# Altium footprint library IC Footprints.PcbLib: 34 footprints (part 1 of 3)
Each footprint in its own frame and in the unit in brackets; x right, y up, seen from the top. Pads: shape width x height; smd on the part's side, far side on the other; paste and mask are expansions set on the pad; w line width, h text height; cw(c..) or ccw(c..) is an arc to the next point about the centre after c.
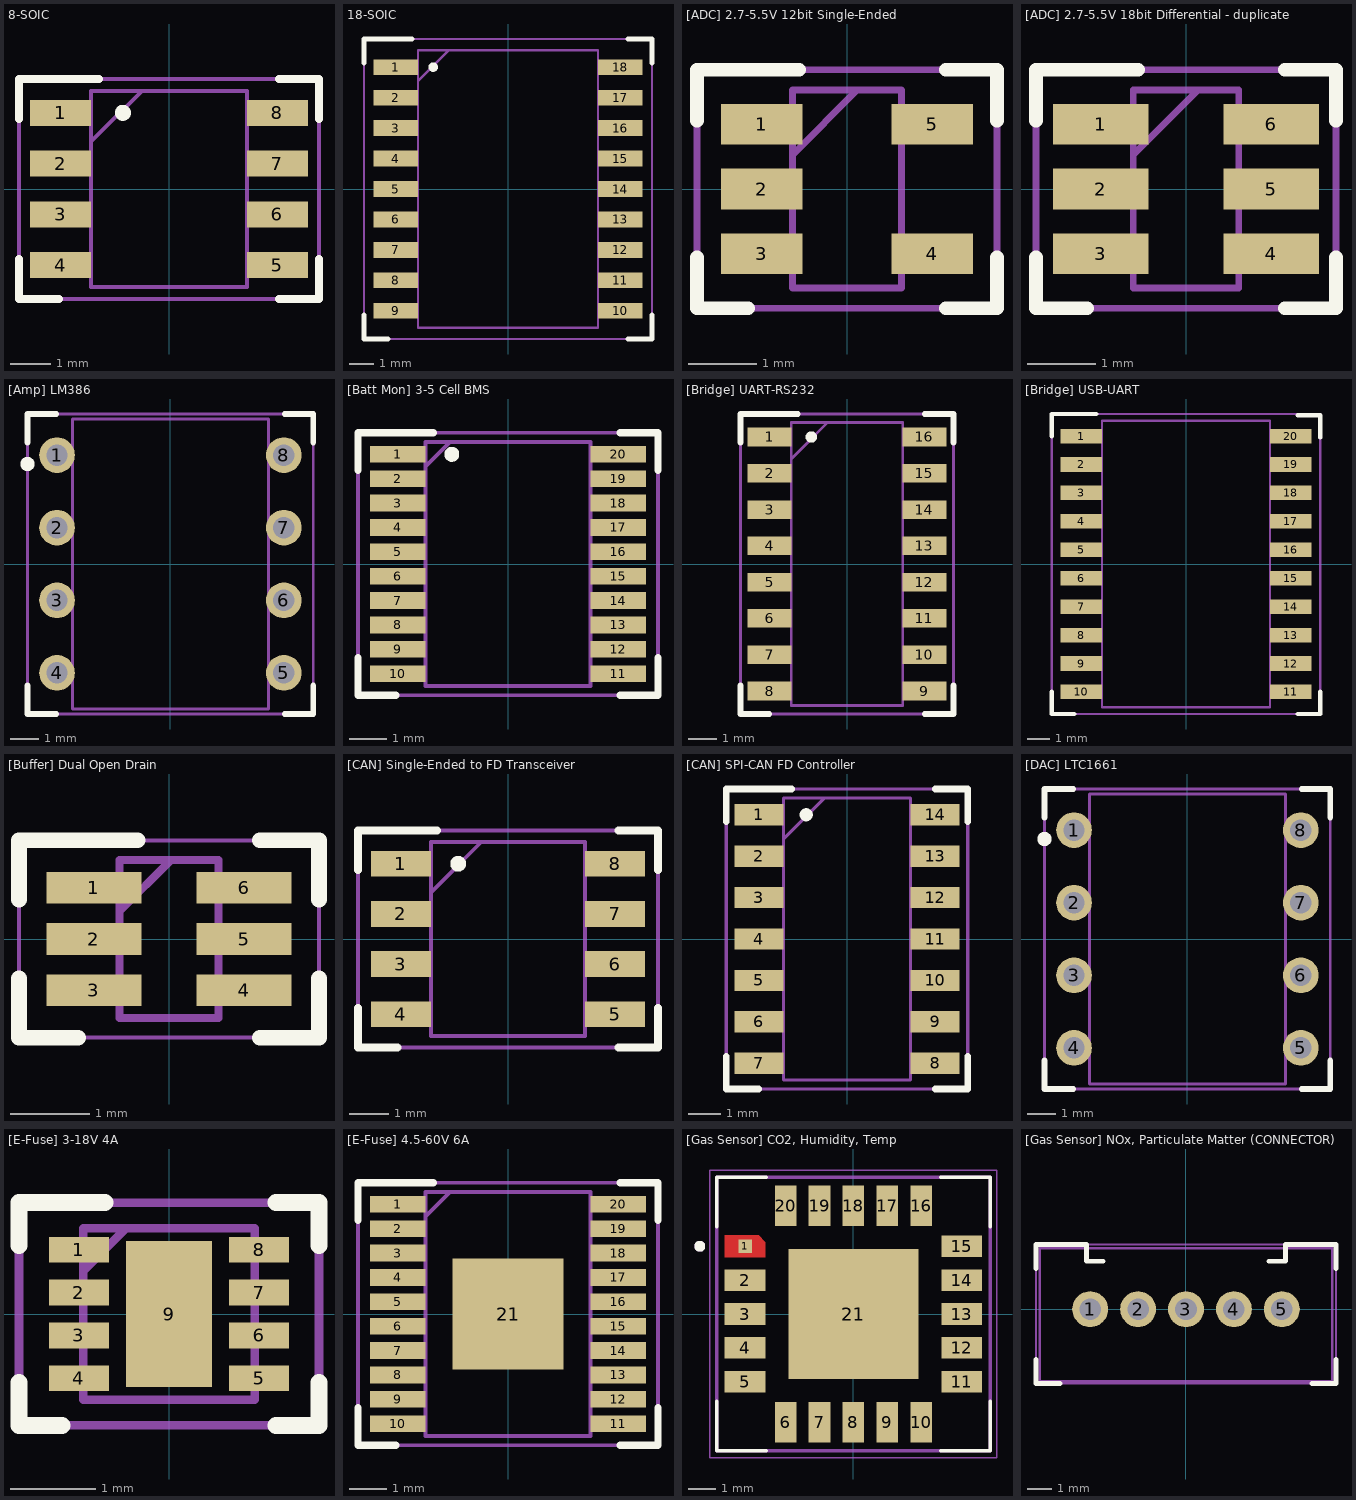
[diagram p0: the footprints below, top view; thin cyan lines are the x and y axes]

## 8-SOIC [mm]
pads (8):
  rect 1.528x0.65 smd: 1(-2.711,1.905) 2(-2.711,0.635) 3(-2.711,-0.635) 4(-2.711,-1.905) 5(2.711,-1.905) 6(2.711,-0.635) 7(2.711,0.635) 8(2.711,1.905)
Top Overlay:
  circle w0.2: c-1.151,1.905 r0.1
  lines w0.2: -3.75,-1.75 -3.75,-2.75 -2.75,-2.75 ; -3.75,1.75 -3.75,2.75 -1.75,2.75 ; 2.75,-2.75 3.75,-2.75 3.75,-1.75 ; 2.75,2.75 3.75,2.75 3.75,1.75
Physical Outline:
  lines w0.1: -1.948,1.182 -0.678,2.452 ; -1.948,-2.452 1.948,-2.452 1.948,2.452 -1.948,2.452 -1.948,-2.452
Part Outline:
  lines w0.1: -3.75,-2.75 3.75,-2.75 3.75,2.75 -3.75,2.75 -3.75,-2.75
3D body "TMCS1100A3QDR.stp": height 1.63, standoff 0, extent -3.011,-2.451 3.011,2.451

## 18-SOIC [mm]
pads (18):
  rect 1.85x0.65 smd: 1(-4.675,5.08) 2(-4.675,3.81) 3(-4.675,2.54) 4(-4.675,1.27) 5(-4.675,0) 6(-4.675,-1.27) 7(-4.675,-2.54) 8(-4.675,-3.81) 9(-4.675,-5.08) 10(4.675,-5.08) 11(4.675,-3.81) 12(4.675,-2.54) 13(4.675,-1.27) 14(4.675,0) 15(4.675,1.27) 16(4.675,2.54) 17(4.675,3.81) 18(4.675,5.08)
Top Overlay:
  circle w0.2: c-3.115,5.08 r0.1
  lines w0.2: -6,-5.25 -6,-6.25 -5,-6.25 ; -6,5.25 -6,6.25 -4,6.25 ; 5,-6.25 6,-6.25 6,-5.25 ; 5,6.25 6,6.25 6,5.25
Physical Outline:
  lines w0.1: -3.75,4.505 -2.48,5.775 ; -3.75,-5.775 3.75,-5.775 3.75,5.775 -3.75,5.775 -3.75,-5.775
Part Outline:
  lines w0.1: -6,-6.25 6,-6.25 6,6.25 -6,6.25 -6,-6.25
3D body "MCP2515T-I_SO.stp": height 2.65, standoff 0, extent -5.15,-5.775 5.15,5.775

## [ADC] 2.7-5.5V 12bit Single-Ended [mm] "MCP3221A0T-E/OT"
pads (5):
  rect 1.2x0.6 smd: 1(-1.25,0.95) 2(-1.25,0) 3(-1.25,-0.95) 4(1.25,-0.95) 5(1.25,0.95)
Top Overlay:
  lines w0.2: -2.2,-1 -2.2,-1.75 -1.45,-1.75 ; -2.2,1 -2.2,1.75 -0.7,1.75 ; 1.45,-1.75 2.2,-1.75 2.2,-1 ; 1.45,1.75 2.2,1.75 2.2,1
Physical Outline:
  lines w0.1: -0.8,0.5 0.15,1.45 ; -0.8,-1.45 0.8,-1.45 0.8,1.45 -0.8,1.45 -0.8,-1.45
Part Outline:
  lines w0.05: -2.1,-1.775 2.1,-1.775 ; -2.1,1.775 2.1,1.775
  lines w0.1: -2.2,-1.75 -2.2,1.75 2.2,1.75 2.2,-1.75 -2.2,-1.75
3D body "TL431IDBVR.stp": height 1.2, standoff 0, extent -1.4,-1.45 1.4,1.45

## [ADC] 2.7-5.5V 18bit Differential - duplicate [mm] "MCP3421A3T-E/CH"
pads (6):
  rect 1.4x0.6 smd: 1(-1.25,0.95) 2(-1.25,0) 3(-1.25,-0.95) 4(1.25,-0.95) 5(1.25,0) 6(1.25,0.95)
Top Overlay:
  lines w0.2: -2.2,-1 -2.2,-1.75 -1.45,-1.75 ; -2.2,1 -2.2,1.75 -0.7,1.75 ; 1.45,-1.75 2.2,-1.75 2.2,-1 ; 1.45,1.75 2.2,1.75 2.2,1
Physical Outline:
  lines w0.1: -0.775,0.5 0.175,1.45 ; -0.775,-1.45 0.775,-1.45 0.775,1.45 -0.775,1.45 -0.775,-1.45
Part Outline:
  lines w0.1: -2.2,-1.75 2.2,-1.75 2.2,1.75 -2.2,1.75 -2.2,-1.75
3D body "93LC66AT-I_OT.stp": height 1.45, standoff 0, extent -1.35,-1.45 1.35,1.45

## [Amp] LM386 [mm] "LM386N-1/NOPB"
pads (8):
  round 1.25 hole 0.75: 1(-3.969,3.81) 2(-3.969,1.27) 3(-3.969,-1.27) 4(-3.969,-3.81) 5(3.969,-3.81) 6(3.969,-1.27) 7(3.969,1.27) 8(3.969,3.81)
Top Overlay:
  circle w0.3: c-5,3.5 r0.1
  lines w0.2: -5,-4.25 -5,-5.25 -4,-5.25 ; -5,4.25 -5,5.25 -4,5.25 ; 4,-5.25 5,-5.25 5,-4.25 ; 4,5.25 5,5.25 5,4.25
Physical Outline:
  lines w0.1: -3.429,-5.08 -3.429,5.08 3.429,5.08 3.429,-5.08 -3.429,-5.08
Part Outline:
  lines w0.1: -5,-5.25 5,-5.25 5,5.25 -5,5.25 -5,-5.25
3D body "LTC1661CN8#PBF.stp": height 3.94, standoff -3.5, extent -4.102,-5.08 4.102,5.08

## [Batt Mon] 3-5 Cell BMS [mm]
pads (20):
  rect 1.475x0.45 smd: 1(-2.938,2.925) 2(-2.938,2.275) 3(-2.938,1.625) 4(-2.938,0.975) 5(-2.938,0.325) 6(-2.938,-0.325) 7(-2.938,-0.975) 8(-2.938,-1.625) 9(-2.938,-2.275) 10(-2.938,-2.925) 11(2.938,-2.925) 12(2.938,-2.275) 13(2.938,-1.625) 14(2.938,-0.975) 15(2.938,-0.325) 16(2.938,0.325) 17(2.938,0.975) 18(2.938,1.625) 19(2.938,2.275) 20(2.938,2.925)
Top Overlay:
  circle w0.2: c-1.5,2.925 r0.1
  lines w0.2: -4,-2.5 -4,-3.5 -3,-3.5 ; -4,2.5 -4,3.5 -2,3.5 ; 3,-3.5 4,-3.5 4,-2.5 ; 3,3.5 4,3.5 4,2.5
Physical Outline:
  lines w0.1: -2.2,2.6 -1.55,3.25 ; -2.2,-3.25 2.2,-3.25 2.2,3.25 -2.2,3.25 -2.2,-3.25
Part Outline:
  lines w0.1: -4,-3.5 4,-3.5 4,3.5 -4,3.5 -4,-3.5
3D body "TXS0108EQPWRQ1.stp": height 1.13, standoff 0, extent -3.2,-3.25 3.2,3.25

## [Bridge] UART-RS232 [mm]
pads (16):
  rect 1.525x0.65 smd: 1(-2.712,4.445) 2(-2.712,3.175) 3(-2.712,1.905) 4(-2.712,0.635) 5(-2.712,-0.635) 6(-2.712,-1.905) 7(-2.712,-3.175) 8(-2.712,-4.445) 9(2.712,-4.445) 10(2.712,-3.175) 11(2.712,-1.905) 12(2.712,-0.635) 13(2.712,0.635) 14(2.712,1.905) 15(2.712,3.175) 16(2.712,4.445)
Top Overlay:
  circle w0.2: c-1.25,4.445 r0.1
  lines w0.2: -3.725,-4.25 -3.725,-5.25 -2.725,-5.25 ; -3.725,4.25 -3.725,5.25 -1.725,5.25 ; 2.725,-5.25 3.725,-5.25 3.725,-4.25 ; 2.725,5.25 3.725,5.25 3.725,4.25
Physical Outline:
  lines w0.1: -1.95,3.68 -0.68,4.95 ; -1.95,-4.95 -1.95,4.95 1.95,4.95 1.95,-4.95 -1.95,-4.95
Part Outline:
  lines w0.1: -3.725,-5.25 -3.725,5.25 3.725,5.25 3.725,-5.25 -3.725,-5.25
3D body "CD4504BM96.stp": height 1.75, standoff 0, extent -3.013,-4.95 3.013,4.95

## [Bridge] USB-UART [mm]
pads (20):
  rect 1.85x0.65 smd: 1(-4.675,5.715) 2(-4.675,4.445) 3(-4.675,3.175) 4(-4.675,1.905) 5(-4.675,0.635) 6(-4.675,-0.635) 7(-4.675,-1.905) 8(-4.675,-3.175) 9(-4.675,-4.445) 10(-4.675,-5.715) 11(4.675,-5.715) 12(4.675,-4.445) 13(4.675,-3.175) 14(4.675,-1.905) 15(4.675,-0.635) 16(4.675,0.635) 17(4.675,1.905) 18(4.675,3.175) 19(4.675,4.445) 20(4.675,5.715)
Top Overlay:
  lines w0.2: -6,-5.7 -6,-6.7 -5,-6.7 ; -6,5.7 -6,6.7 -4,6.7 ; 5,-6.7 6,-6.7 6,-5.7 ; 5,6.65 6,6.65 6,5.65
Physical Outline:
  lines w0.1: -3.75,-6.4 -3.75,6.4 3.75,6.4 3.75,-6.4 -3.75,-6.4
Part Outline:
  lines w0.1: -6,-6.7 6,-6.7 ; -6,-6.65 -6,6.65 ; -6,6.7 6,6.7 ; 6,-6.65 6,6.65
3D body "MCP2200T-I_SO.stp": height 2.65, standoff 0, extent -5.15,-6.4 5.15,6.4

## [Buffer] Dual Open Drain [mm] "NC7WZ07P6X"
pads (6):
  rect 1.2x0.4 smd: 1(-0.95,0.65) 2(-0.95,0) 3(-0.95,-0.65) 4(0.95,-0.65) 5(0.95,0) 6(0.95,0.65)
Top Overlay:
  lines w0.2: -1.9,-0.5 -1.9,-1.25 -1.15,-1.25 ; -1.9,0.5 -1.9,1.25 -0.4,1.25 ; 1.15,-1.25 1.9,-1.25 1.9,-0.5 ; 1.15,1.25 1.9,1.25 1.9,0.5
Physical Outline:
  lines w0.1: -0.625,0.35 0.025,1 ; -0.625,-1 -0.625,1 0.625,1 0.625,-1 -0.625,-1
Part Outline:
  lines w0.05: -1.9,-1.25 -1.9,1.25 1.9,1.25 1.9,-1.25 -1.9,-1.25
3D body "NC7WZ07P6X.stp": height 1.1, standoff 0, extent -1.05,-1 1.05,1

## [CAN] Single-Ended to FD Transceiver [mm] "ATA6561-GAQW-N"
pads (8):
  rect 1.528x0.65 smd: 1(-2.711,1.905) 2(-2.711,0.635) 3(-2.711,-0.635) 4(-2.711,-1.905) 5(2.711,-1.905) 6(2.711,-0.635) 7(2.711,0.635) 8(2.711,1.905)
Top Overlay:
  circle w0.2: c-1.261,1.905 r0.1
  lines w0.2: -3.8,-1.75 -3.8,-2.75 -2.8,-2.75 ; -3.8,1.75 -3.8,2.75 -1.8,2.75 ; 2.8,-2.75 3.8,-2.75 3.8,-1.75 ; 2.8,2.75 3.8,2.75 3.8,1.75
Physical Outline:
  lines w0.1: -1.948,1.182 -0.678,2.452 ; -1.948,-2.452 -1.948,2.452 1.948,2.452 1.948,-2.452 -1.948,-2.452
Part Outline:
  lines w0.1: -3.8,-2.75 -3.8,2.75 3.8,2.75 3.8,-2.75 -3.8,-2.75
3D body "TMCS1100A3QDR.stp": height 1.63, standoff 0, extent -3.011,-2.451 3.011,2.451

## [CAN] SPI-CAN FD Controller [mm] "MCP2518FDT-E/SL"
pads (14):
  rect 1.5x0.65 smd: 1(-2.7,3.81) 2(-2.7,2.54) 3(-2.7,1.27) 4(-2.7,0) 5(-2.7,-1.27) 6(-2.7,-2.54) 7(-2.7,-3.81) 8(2.7,-3.81) 9(2.7,-2.54) 10(2.7,-1.27) 11(2.7,0) 12(2.7,1.27) 13(2.7,2.54) 14(2.7,3.81)
Top Overlay:
  circle w0.2: c-1.25,3.81 r0.1
  lines w0.2: -3.7,-3.6 -3.7,-4.6 -2.7,-4.6 ; -3.7,3.6 -3.7,4.6 -1.7,4.6 ; 2.7,-4.6 3.7,-4.6 3.7,-3.6 ; 2.7,4.6 3.7,4.6 3.7,3.6
Physical Outline:
  lines w0.1: -1.95,3.055 -0.68,4.325 ; -1.95,-4.325 1.95,-4.325 1.95,4.325 -1.95,4.325 -1.95,-4.325
Part Outline:
  lines w0.1: -3.7,-4.6 3.7,-4.6 3.7,4.6 -3.7,4.6 -3.7,-4.6
3D body "MCP2518FDT-E_SL.stp": height 1.75, standoff 0, extent -3,-4.325 3,4.325

## [DAC] LTC1661 [mm] "LTC1661CN8#PBF"
pads (8):
  round 1.25 hole 0.75: 1(-3.969,3.81) 2(-3.969,1.27) 3(-3.969,-1.27) 4(-3.969,-3.81) 5(3.969,-3.81) 6(3.969,-1.27) 7(3.969,1.27) 8(3.969,3.81)
Top Overlay:
  circle w0.3: c-5,3.5 r0.1
  lines w0.2: -5,-4.25 -5,-5.25 -4,-5.25 ; -5,4.25 -5,5.25 -4,5.25 ; 4,-5.25 5,-5.25 5,-4.25 ; 4,5.25 5,5.25 5,4.25
Physical Outline:
  lines w0.1: -3.429,-5.08 -3.429,5.08 3.429,5.08 3.429,-5.08 -3.429,-5.08
Part Outline:
  lines w0.1: -5,-5.25 5,-5.25 5,5.25 -5,5.25 -5,-5.25
3D body "LTC1661CN8#PBF.stp": height 3.94, standoff -3.5, extent -4.102,-5.08 4.102,5.08

## [E-Fuse] 3-18V 4A [mm] "TPS259571DSGR"
pads (9):
  rect 0.7x0.3 smd: 1(-1.05,0.75) 2(-1.05,0.25) 3(-1.05,-0.25) 4(-1.05,-0.75) 5(1.05,-0.75) 6(1.05,-0.25) 7(1.05,0.25) 8(1.05,0.75)
  rect 1x1.7 smd: 9(0,0)
Top Overlay:
  lines w0.2: -1.75,-0.8 -1.75,-1.3 -1.25,-1.3 ; -1.75,0.8 -1.75,1.3 -0.75,1.3 ; 1.25,-1.3 1.75,-1.3 1.75,-0.8 ; 1.25,1.3 1.75,1.3 1.75,0.8
Physical Outline:
  lines w0.1: -1,0.5 -0.5,1 ; -1,-1 1,-1 1,1 -1,1 -1,-1
Part Outline:
  lines w0.1: -1.75,-1.3 1.75,-1.3 1.75,1.3 -1.75,1.3 -1.75,-1.3
3D body "TPS259571DSGR.stp": height 0.8, standoff 0, extent -1.05,-1 1.05,1

## [E-Fuse] 4.5-60V 6A [mm] "TPS26631PWPT"
pads (21):
  rect 1.475x0.45 smd: 1(-2.938,2.925) 2(-2.938,2.275) 3(-2.938,1.625) 4(-2.938,0.975) 5(-2.938,0.325) 6(-2.938,-0.325) 7(-2.938,-0.975) 8(-2.938,-1.625) 9(-2.938,-2.275) 10(-2.938,-2.925) 11(2.938,-2.925) 12(2.938,-2.275) 13(2.938,-1.625) 14(2.938,-0.975) 15(2.938,-0.325) 16(2.938,0.325) 17(2.938,0.975) 18(2.938,1.625) 19(2.938,2.275) 20(2.938,2.925)
  rect 2.96x2.96 smd: 21(0,0)
Top Overlay:
  lines w0.2: -4,-2.5 -4,-3.5 -3,-3.5 ; -4,2.5 -4,3.5 -2,3.5 ; 3,-3.5 4,-3.5 4,-2.5 ; 3,3.5 4,3.5 4,2.5
Physical Outline:
  lines w0.1: -2.2,2.6 -1.55,3.25 ; -2.2,-3.25 2.2,-3.25 2.2,3.25 -2.2,3.25 -2.2,-3.25
Part Outline:
  lines w0.1: -4,-3.5 4,-3.5 4,3.5 -4,3.5 -4,-3.5
3D body "TPS26631PWPR.stp": height 1.2, standoff 0, extent -3.2,-3.25 3.2,3.25

## [Gas Sensor] CO2, Humidity, Temp [mm] "SCD41-D-R2"
pads (21):
  rect 0.5x0.5 smd paste-1 mask+0: 1(-4,2.5)
  rect 1.5x0.8 smd paste-0.125 mask+0.1: 2(-4,1.25) 3(-4,0) 4(-4,-1.25) 5(-4,-2.5) 11(4,-2.5) 12(4,-1.25) 13(4,0) 14(4,1.25) 15(4,2.5)
  rect 0.8x1.5 smd paste-0.125 mask+0.1: 6(-2.5,-4) 7(-1.25,-4) 8(0,-4) 9(1.25,-4) 10(2.5,-4) 16(2.5,4) 17(1.25,4) 18(0,4) 19(-1.25,4) 20(-2.5,4)
  rect 4.8x4.8 smd paste-3 mask+0.1: 21(0,0)
Top Layer:
  region: -3.25,2.65 -3.25,2.1 -4.75,2.1 -4.75,2.9 -3.5,2.9
Top Overlay:
  circle w0.2: c-5.673,2.5 r0.1
  lines w0.127: -5.05,-3.22 -5.05,-5.05 -3.22,-5.05 ; -5.05,3.22 -5.05,5.05 -3.22,5.05 ; 3.22,-5.05 5.05,-5.05 5.05,-3.22 ; 3.22,5.05 5.05,5.05 5.05,3.22
Top Paste:
  region: -0.35,0.35 -2.15,0.35 -2.15,2.15 -0.35,2.15
  region: 2.15,0.35 0.35,0.35 0.35,2.15 2.15,2.15
  region: 2.15,-2.15 0.35,-2.15 0.35,-0.35 2.15,-0.35
  region: -0.35,-2.15 -2.15,-2.15 -2.15,-0.35 -0.35,-0.35
  region: -3.375,2.595 -3.375,2.225 -4.625,2.225 -4.625,2.775 -3.555,2.775
Top Solder:
  region: -3.15,2.72 -3.15,2 -4.85,2 -4.85,3 -3.43,3
Physical Outline:
  circle w0.2: c-5.673,2.5 r0.1
  lines w0.127: -5.05,-5.05 5.05,-5.05 5.05,5.05 -5.05,5.05 -5.05,-5.05
Part Outline:
  lines w0.05: -5.3,-5.3 -5.3,5.3 5.3,5.3 5.3,-5.3 -5.3,-5.3
3D body "step_temp.STEP": height 5.48, standoff -0.83, extent -5.05,-5.05 5.05,5.05

## [Gas Sensor] NOx, Particulate Matter (CONNECTOR) - duplicate [mm]
pads (5):
  round 1.5 hole 0.9: 1(-4,0) 2(-2,0) 3(0,0) 4(2,0) 5(4,0)
Top Overlay:
  lines w0.2: -6.26,-2.1 -6.26,-3.1 -5.26,-3.1 ; -6.26,1.7 -6.26,2.7 -4.15,2.7 -4.15,2 -3.45,2 ; 3.45,2 4.15,2 4.15,2.7 6.26,2.7 6.26,1.7 ; 5.26,-3.1 6.26,-3.1 6.26,-2.1
Physical Outline:
  lines w0.1: -6.11,-3 -6.11,2.55 6.11,2.55 6.11,-3 -6.11,-3
Part Outline:
  lines w0.1: -6.26,-3.1 -6.26,2.7 6.26,2.7 6.26,-3.1 -6.26,-3.1
3D body "[Sherlock] 5pin.stp": height 8.55, standoff -3.25, extent -6.15,-3 6.15,2.55